# Altium schematic symbol library VRG8657.Schlib: 1 symbol
Pins are listed as number, name and electrical type; pins without a type are passive.

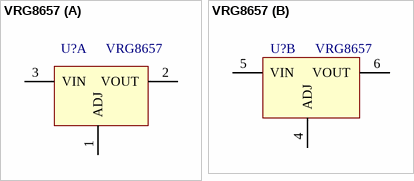
[diagram p0: symbol VRG8657]

## VRG8657
designator U?
Назначение: Линейный регулятор; Наименование: VRG8657
footprint VRG8657
part A pins: 1 ADJ, 2 VOUT, 3 VIN
part B pins: 4 ADJ, 5 VIN, 6 VOUT